# Altium schematic symbol library LilyPad-Wearables.SCHLIB: 17 symbols
Pins are listed as number, name and electrical type; pins without a type are passive.

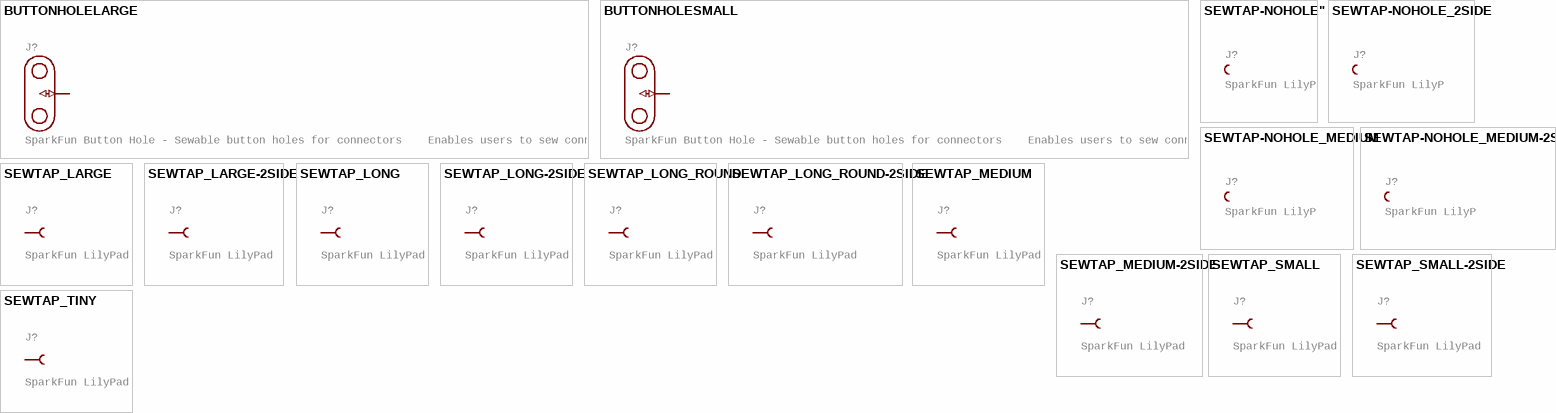
[diagram p0: symbols BUTTONHOLELARGE to SEWTAP_TINY]

## BUTTONHOLELARGE
designator J?, comment SparkFun Button Hole - Sewable button holes for connectors    Enables users to sew connections in wearables projects.   SparkFun Products:  MOSFET Power Controller
GateName_1: G$1; DeviceName: LARGE; SymbolName_1: BUTTONHOLE; LibraryName: LilyPad-Wearables; DeviceSetName: BUTTONHOLE; Package: BUTTONHOLE
footprint BUTTONHOLE
pins: P$1 (io)

## BUTTONHOLESMALL
designator J?, comment SparkFun Button Hole - Sewable button holes for connectors    Enables users to sew connections in wearables projects.   SparkFun Products:  MOSFET Power Controller
GateName_1: G$1; DeviceName: SMALL; SymbolName_1: BUTTONHOLE; LibraryName: LilyPad-Wearables; DeviceSetName: BUTTONHOLE; Package: BUTTONHOLE-SM
footprint BUTTONHOLE-SM
pins: P$3 P$1 (io)

## SEWTAP-NOHOLE"
designator J?, comment SparkFun LilyPad Sew Taps without Holes    Petals used for PCB aesthetics. No connection points for circuits, and no hole available for sewing.   SparkFun Products:   LilyPad Vibe Board   LilyPad Accelerometer
GateName_1: G$1; SymbolName_1: SEWTAP-NO_CONNECTION; DeviceName: "; DeviceSetName: SEWTAP-NOHOLE; LibraryName: LilyPad-Wearables; Package: PETAL-NOHOLE
footprint PETAL-NOHOLE

## SEWTAP-NOHOLE_2SIDE
designator J?, comment SparkFun LilyPad Sew Taps without Holes    Petals used for PCB aesthetics. No connection points for circuits, and no hole available for sewing.   SparkFun Products:   LilyPad Vibe Board   LilyPad Accelerometer
GateName_1: G$1; SymbolName_1: SEWTAP-NO_CONNECTION; DeviceName: _2SIDE; DeviceSetName: SEWTAP-NOHOLE; LibraryName: LilyPad-Wearables; Package: PETAL-NOHOLE-2SIDE
footprint PETAL-NOHOLE-2SIDE

## SEWTAP-NOHOLE_MEDIUM
designator J?, comment SparkFun LilyPad Sew Taps without Holes    Petals used for PCB aesthetics. No connection points for circuits, and no hole available for sewing.   SparkFun Products:   LilyPad Vibe Board   LilyPad Accelerometer
GateName_1: G$1; SymbolName_1: SEWTAP-NO_CONNECTION; DeviceName: _MEDIUM; DeviceSetName: SEWTAP-NOHOLE; LibraryName: LilyPad-Wearables; Package: PETAL-MEDIUM-NOHOLE
footprint PETAL-MEDIUM-NOHOLE

## SEWTAP-NOHOLE_MEDIUM-2SIDE
designator J?, comment SparkFun LilyPad Sew Taps without Holes    Petals used for PCB aesthetics. No connection points for circuits, and no hole available for sewing.   SparkFun Products:   LilyPad Vibe Board   LilyPad Accelerometer
GateName_1: G$1; SymbolName_1: SEWTAP-NO_CONNECTION; DeviceName: _MEDIUM-2SIDE; DeviceSetName: SEWTAP-NOHOLE; LibraryName: LilyPad-Wearables; Package: PETAL-MEDIUM-2SIDE-NOHOLE
footprint PETAL-MEDIUM-2SIDE-NOHOLE

## SEWTAP_LARGE
designator J?, comment SparkFun LilyPad Sew Taps    Sewable connection points for LilyPad Boards   SparkFun Products:  LilyPad Arduino 328 Main Board  LilyTiny  LilyPad Power Supply
GateName_1: G$1; SymbolName_1: SEWTAP; DeviceName: _LARGE; LibraryName: LilyPad-Wearables; DeviceSetName: SEWTAP; Package: PETAL-LARGE
footprint PETAL-LARGE
pins: 1 (io)

## SEWTAP_LARGE-2SIDE
designator J?, comment SparkFun LilyPad Sew Taps    Sewable connection points for LilyPad Boards   SparkFun Products:  LilyPad Arduino 328 Main Board  LilyTiny  LilyPad Power Supply
GateName_1: G$1; SymbolName_1: SEWTAP; DeviceName: _LARGE-2SIDE; LibraryName: LilyPad-Wearables; DeviceSetName: SEWTAP; Package: PETAL-LARGE-2SIDE
footprint PETAL-LARGE-2SIDE
pins: 1 (io)

## SEWTAP_LONG
designator J?, comment SparkFun LilyPad Sew Taps    Sewable connection points for LilyPad Boards   SparkFun Products:  LilyPad Arduino 328 Main Board  LilyTiny  LilyPad Power Supply
GateName_1: G$1; SymbolName_1: SEWTAP; DeviceName: _LONG; LibraryName: LilyPad-Wearables; DeviceSetName: SEWTAP; Package: PETAL-LONG-1
footprint PETAL-LONG-1
pins: 1 (io)

## SEWTAP_LONG-2SIDE
designator J?, comment SparkFun LilyPad Sew Taps    Sewable connection points for LilyPad Boards   SparkFun Products:  LilyPad Arduino 328 Main Board  LilyTiny  LilyPad Power Supply
GateName_1: G$1; SymbolName_1: SEWTAP; DeviceName: _LONG-2SIDE; LibraryName: LilyPad-Wearables; DeviceSetName: SEWTAP; Package: PETAL-LONG-1-2SIDE
footprint PETAL-LONG-1-2SIDE
pins: 1 (io)

## SEWTAP_LONG_ROUND
designator J?, comment SparkFun LilyPad Sew Taps    Sewable connection points for LilyPad Boards   SparkFun Products:  LilyPad Arduino 328 Main Board  LilyTiny  LilyPad Power Supply
GateName_1: G$1; SymbolName_1: SEWTAP; DeviceName: _LONG_ROUND; LibraryName: LilyPad-Wearables; DeviceSetName: SEWTAP; Package: PETAL-LONG-2
footprint PETAL-LONG-2
pins: 1 (io)

## SEWTAP_LONG_ROUND-2SIDE
designator J?, comment SparkFun LilyPad Sew Taps    Sewable connection points for LilyPad Boards   SparkFun Products:  LilyPad Arduino 328 Main Board  LilyTiny  LilyPad Power Supply
GateName_1: G$1; SymbolName_1: SEWTAP; DeviceName: _LONG_ROUND-2SIDE; LibraryName: LilyPad-Wearables; DeviceSetName: SEWTAP; Package: PETAL-LONG-2-2SIDE
footprint PETAL-LONG-2-2SIDE
pins: 1 (io)

## SEWTAP_MEDIUM
designator J?, comment SparkFun LilyPad Sew Taps    Sewable connection points for LilyPad Boards   SparkFun Products:  LilyPad Arduino 328 Main Board  LilyTiny  LilyPad Power Supply
GateName_1: G$1; SymbolName_1: SEWTAP; DeviceName: _MEDIUM; LibraryName: LilyPad-Wearables; DeviceSetName: SEWTAP; Package: PETAL-MEDIUM
footprint PETAL-MEDIUM
pins: 1 (io)

## SEWTAP_MEDIUM-2SIDE
designator J?, comment SparkFun LilyPad Sew Taps    Sewable connection points for LilyPad Boards   SparkFun Products:  LilyPad Arduino 328 Main Board  LilyTiny  LilyPad Power Supply
GateName_1: G$1; SymbolName_1: SEWTAP; DeviceName: _MEDIUM-2SIDE; LibraryName: LilyPad-Wearables; DeviceSetName: SEWTAP; Package: PETAL-MEDIUM-2SIDE
footprint PETAL-MEDIUM-2SIDE
pins: 1 (io)

## SEWTAP_SMALL
designator J?, comment SparkFun LilyPad Sew Taps    Sewable connection points for LilyPad Boards   SparkFun Products:  LilyPad Arduino 328 Main Board  LilyTiny  LilyPad Power Supply
GateName_1: G$1; SymbolName_1: SEWTAP; DeviceName: _SMALL; LibraryName: LilyPad-Wearables; DeviceSetName: SEWTAP; Package: PETAL-SMALL
footprint PETAL-SMALL
pins: 1 (io)

## SEWTAP_SMALL-2SIDE
designator J?, comment SparkFun LilyPad Sew Taps    Sewable connection points for LilyPad Boards   SparkFun Products:  LilyPad Arduino 328 Main Board  LilyTiny  LilyPad Power Supply
GateName_1: G$1; SymbolName_1: SEWTAP; DeviceName: _SMALL-2SIDE; LibraryName: LilyPad-Wearables; DeviceSetName: SEWTAP; Package: PETAL-SMALL-2SIDE
footprint PETAL-SMALL-2SIDE
pins: 1 (io)

## SEWTAP_TINY
designator J?, comment SparkFun LilyPad Sew Taps    Sewable connection points for LilyPad Boards   SparkFun Products:  LilyPad Arduino 328 Main Board  LilyTiny  LilyPad Power Supply
GateName_1: G$1; SymbolName_1: SEWTAP; DeviceName: _TINY; LibraryName: LilyPad-Wearables; DeviceSetName: SEWTAP; Package: PETAL-TINY
footprint PETAL-TINY
pins: 1 (io)